# Altium integrated library TI Data Converters Analog to Digital Converter.IntLib: 2197 symbols (part 84 of 168)
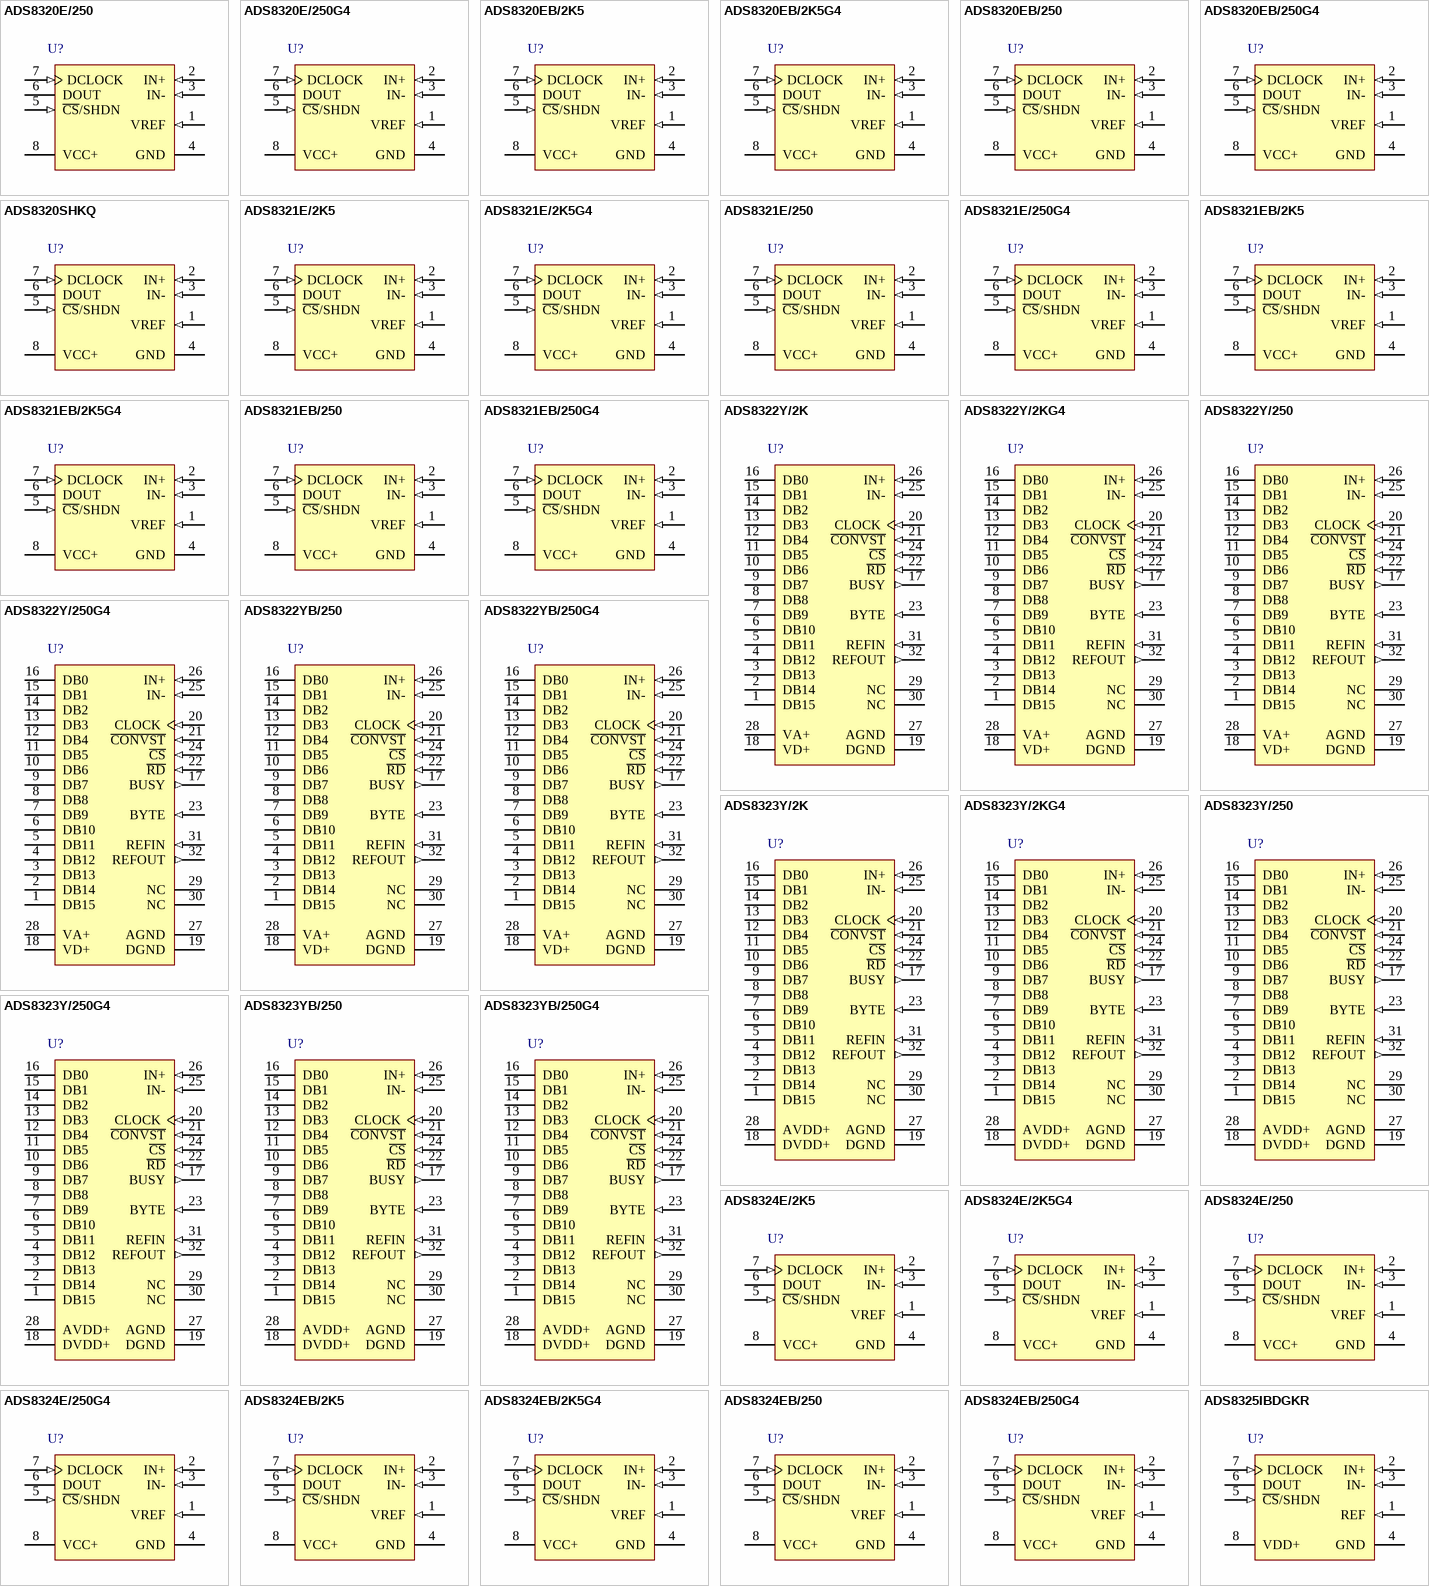
[diagram p209: symbols ADS8320E/250 to ADS8325IBDGKR]

## ADS8321E/2K5
designator U?
16-Bit, High Speed, MicroPower Sampling ADC, -40 to 85 degC, 8-pin SOP (DGK8), Green (RoHS & no Sb/Br); Manufacturer: Texas Instruments; PartNumber: ADS8321E/2K5; # Input Channels: 1; Analog Voltage AV/DD(Max)(V): 5.25; Analog Voltage AV/DD(Min)(V): 4.75; Architecture: SAR; INL(Max)(+/-LSB): 8; Interface: Serial SPI; Resolution(Bits): 16; Sample Rate (max)(SPS): 100k; SFDR(dB): 84; SINAD(dB): 82; SNR(dB): 85; SubFamily: Precision ADC (<=10MSPS); DatasheetVersion: SBAS123B; PackageVersion: 4073329/E, 05/2006; PackageReference: DGK8; PackageDescription: 8-Pin Thin Small Outline, Body 3 x 3 mm, Pitch 0.65 mm; Supplier 1: Digi-Key; Supplier Part Number 1: DDC112YK/250-ND; Supplier 2: Mouser; Supplier Part Number 2: 595-DDC112YK/250; Digital Supply(Max)(V): 5.25; Digital Supply(Min)(V): 4.75; Eco-Plan: Green (RoHS & no Sb/Br); Mounting Technology: Surface Mount; Code_JEDEC: MO-187; ComponentLink1Description: Manufacturer URL; ComponentLink1URL: http://www.ti.com/; ComponentLink2Description: Datasheet; ComponentLink2URL: http://www.ti.com/general/docs/lit/getliterature.tsp?genericPartNumber=ADS8321&fileType=pdf; ComponentLink3Description: Package Specification; ComponentLink3URL: http://www.ti.com/litv/pdf/mpds028d
footprint TI-DGK8_N (SOP, 8-Leads, Body 3x3mm, Pitch 0.65mm, IPC Medium Density)
footprint TI-DGK8_L (SOP, 8-Leads, Body 3x3mm, Pitch 0.65mm, IPC High Density)
footprint TI-DGK8_M (SOP, 8-Leads, Body 3x3mm, Pitch 0.65mm, IPC Low Density)
pins: 1 VREF (in) "Reference Input", 2 IN+ (in) "Non Inverting Input", 3 IN- (in) "Inverting Input", 4 GND (power) "Ground", 5 ~{CS}/SHDN (in) "Chip Select when LOW, Shutdown Mode when HIGH.", 6 DOUT (hiz) "The serial output data word is comprised of 16 bits of data. In operation the data is valid on the falling edge of DCLOCK. The second clock pulse after the falling edge of C\S\ enables the serial output. After one null bit, (See Datasheet)", 7 DCLOCK (in) "Data Clock synchronizes the serial data transfer and determines conversion speed.", 8 VCC+ (power) "Power Supply."

## ADS8321E/2K5G4
designator U?
16-Bit, High Speed, MicroPower Sampling ADC, -40 to 85 degC, 8-pin SOP (DGK8), Green (RoHS & no Sb/Br); Manufacturer: Texas Instruments; PartNumber: ADS8321E/2K5G4; # Input Channels: 1; Analog Voltage AV/DD(Max)(V): 5.25; Analog Voltage AV/DD(Min)(V): 4.75; Architecture: SAR; INL(Max)(+/-LSB): 8; Interface: Serial SPI; Resolution(Bits): 16; Sample Rate (max)(SPS): 100k; SFDR(dB): 84; SINAD(dB): 82; SNR(dB): 85; SubFamily: Precision ADC (<=10MSPS); DatasheetVersion: SBAS123B; PackageVersion: 4073329/E, 05/2006; PackageReference: DGK8; PackageDescription: 8-Pin Thin Small Outline, Body 3 x 3 mm, Pitch 0.65 mm; Supplier 1: Digi-Key; Supplier Part Number 1: DDC112YK/250G4-ND; Supplier 2: Mouser; Supplier Part Number 2: 595-DDC112YK/250G4; Digital Supply(Max)(V): 5.25; Digital Supply(Min)(V): 4.75; Eco-Plan: Green (RoHS & no Sb/Br); Mounting Technology: Surface Mount; Code_JEDEC: MO-187; ComponentLink1Description: Manufacturer URL; ComponentLink1URL: http://www.ti.com/; ComponentLink2Description: Datasheet; ComponentLink2URL: http://www.ti.com/general/docs/lit/getliterature.tsp?genericPartNumber=ADS8321&fileType=pdf; ComponentLink3Description: Package Specification; ComponentLink3URL: http://www.ti.com/litv/pdf/mpds028d
footprint TI-DGK8_N (SOP, 8-Leads, Body 3x3mm, Pitch 0.65mm, IPC Medium Density)
footprint TI-DGK8_L (SOP, 8-Leads, Body 3x3mm, Pitch 0.65mm, IPC High Density)
footprint TI-DGK8_M (SOP, 8-Leads, Body 3x3mm, Pitch 0.65mm, IPC Low Density)
pins: 1 VREF (in) "Reference Input", 2 IN+ (in) "Non Inverting Input", 3 IN- (in) "Inverting Input", 4 GND (power) "Ground", 5 ~{CS}/SHDN (in) "Chip Select when LOW, Shutdown Mode when HIGH.", 6 DOUT (hiz) "The serial output data word is comprised of 16 bits of data. In operation the data is valid on the falling edge of DCLOCK. The second clock pulse after the falling edge of C\S\ enables the serial output. After one null bit, (See Datasheet)", 7 DCLOCK (in) "Data Clock synchronizes the serial data transfer and determines conversion speed.", 8 VCC+ (power) "Power Supply."

## ADS8321E/250
designator U?
16-Bit, High Speed, MicroPower Sampling ADC, -40 to 85 degC, 8-pin SOP (DGK8), Green (RoHS & no Sb/Br); Manufacturer: Texas Instruments; PartNumber: ADS8321E/250; # Input Channels: 1; Analog Voltage AV/DD(Max)(V): 5.25; Analog Voltage AV/DD(Min)(V): 4.75; Architecture: SAR; INL(Max)(+/-LSB): 8; Interface: Serial SPI; Resolution(Bits): 16; Sample Rate (max)(SPS): 100k; SFDR(dB): 84; SINAD(dB): 82; SNR(dB): 85; SubFamily: Precision ADC (<=10MSPS); DatasheetVersion: SBAS123B; PackageVersion: 4073329/E, 05/2006; PackageReference: DGK8; PackageDescription: 8-Pin Thin Small Outline, Body 3 x 3 mm, Pitch 0.65 mm; Supplier 1: Digi-Key; Supplier Part Number 1: ADS7841E-ND; Supplier 2: Farnell; Supplier Part Number 2: 4808228; Supplier 3: Newark; Supplier Part Number 3: 35C1553; Supplier 4: Mouser; Supplier Part Number 4: 595-ADS7841E; Digital Supply(Max)(V): 5.25; Digital Supply(Min)(V): 4.75; Eco-Plan: Green (RoHS & no Sb/Br); Mounting Technology: Surface Mount; Code_JEDEC: MO-187; ComponentLink1Description: Manufacturer URL; ComponentLink1URL: http://www.ti.com/; ComponentLink2Description: Datasheet; ComponentLink2URL: http://www.ti.com/general/docs/lit/getliterature.tsp?genericPartNumber=ADS8321&fileType=pdf; ComponentLink3Description: Package Specification; ComponentLink3URL: http://www.ti.com/litv/pdf/mpds028d
footprint TI-DGK8_N (SOP, 8-Leads, Body 3x3mm, Pitch 0.65mm, IPC Medium Density)
footprint TI-DGK8_L (SOP, 8-Leads, Body 3x3mm, Pitch 0.65mm, IPC High Density)
footprint TI-DGK8_M (SOP, 8-Leads, Body 3x3mm, Pitch 0.65mm, IPC Low Density)
pins: 1 VREF (in) "Reference Input", 2 IN+ (in) "Non Inverting Input", 3 IN- (in) "Inverting Input", 4 GND (power) "Ground", 5 ~{CS}/SHDN (in) "Chip Select when LOW, Shutdown Mode when HIGH.", 6 DOUT (hiz) "The serial output data word is comprised of 16 bits of data. In operation the data is valid on the falling edge of DCLOCK. The second clock pulse after the falling edge of C\S\ enables the serial output. After one null bit, (See Datasheet)", 7 DCLOCK (in) "Data Clock synchronizes the serial data transfer and determines conversion speed.", 8 VCC+ (power) "Power Supply."

## ADS8321E/250G4
designator U?
16-Bit, High Speed, MicroPower Sampling ADC, -40 to 85 degC, 8-pin SOP (DGK8), Green (RoHS & no Sb/Br); Manufacturer: Texas Instruments; PartNumber: ADS8321E/250G4; # Input Channels: 1; Analog Voltage AV/DD(Max)(V): 5.25; Analog Voltage AV/DD(Min)(V): 4.75; Architecture: SAR; INL(Max)(+/-LSB): 8; Interface: Serial SPI; Resolution(Bits): 16; Sample Rate (max)(SPS): 100k; SFDR(dB): 84; SINAD(dB): 82; SNR(dB): 85; SubFamily: Precision ADC (<=10MSPS); DatasheetVersion: SBAS123B; PackageVersion: 4073329/E, 05/2006; PackageReference: DGK8; PackageDescription: 8-Pin Thin Small Outline, Body 3 x 3 mm, Pitch 0.65 mm; Supplier 1: Digi-Key; Supplier Part Number 1: 296-25900-2-ND; Supplier 2: Digi-Key; Supplier Part Number 2: 296-25900-1-ND; Supplier 3: Digi-Key; Supplier Part Number 3: 296-25900-6-ND; Supplier 4: Mouser; Supplier Part Number 4: 595-ADS7841E/2K5; Digital Supply(Max)(V): 5.25; Digital Supply(Min)(V): 4.75; Eco-Plan: Green (RoHS & no Sb/Br); Mounting Technology: Surface Mount; Code_JEDEC: MO-187; ComponentLink1Description: Manufacturer URL; ComponentLink1URL: http://www.ti.com/; ComponentLink2Description: Datasheet; ComponentLink2URL: http://www.ti.com/general/docs/lit/getliterature.tsp?genericPartNumber=ADS8321&fileType=pdf; ComponentLink3Description: Package Specification; ComponentLink3URL: http://www.ti.com/litv/pdf/mpds028d
footprint TI-DGK8_N (SOP, 8-Leads, Body 3x3mm, Pitch 0.65mm, IPC Medium Density)
footprint TI-DGK8_L (SOP, 8-Leads, Body 3x3mm, Pitch 0.65mm, IPC High Density)
footprint TI-DGK8_M (SOP, 8-Leads, Body 3x3mm, Pitch 0.65mm, IPC Low Density)
pins: 1 VREF (in) "Reference Input", 2 IN+ (in) "Non Inverting Input", 3 IN- (in) "Inverting Input", 4 GND (power) "Ground", 5 ~{CS}/SHDN (in) "Chip Select when LOW, Shutdown Mode when HIGH.", 6 DOUT (hiz) "The serial output data word is comprised of 16 bits of data. In operation the data is valid on the falling edge of DCLOCK. The second clock pulse after the falling edge of C\S\ enables the serial output. After one null bit, (See Datasheet)", 7 DCLOCK (in) "Data Clock synchronizes the serial data transfer and determines conversion speed.", 8 VCC+ (power) "Power Supply."

## ADS8321EB/2K5
designator U?
16-Bit, High Speed, MicroPower Sampling ADC, -40 to 85 degC, 8-pin SOP (DGK8), Green (RoHS & no Sb/Br); Manufacturer: Texas Instruments; PartNumber: ADS8321EB/2K5; # Input Channels: 1; Analog Voltage AV/DD(Max)(V): 5.25; Analog Voltage AV/DD(Min)(V): 4.75; Architecture: SAR; INL(Max)(+/-LSB): 8; Interface: Serial SPI; Resolution(Bits): 16; Sample Rate (max)(SPS): 100k; SFDR(dB): 86; SINAD(dB): 84; SNR(dB): 87; SubFamily: Precision ADC (<=10MSPS); DatasheetVersion: SBAS123B; PackageVersion: 4073329/E, 05/2006; PackageReference: DGK8; PackageDescription: 8-Pin Thin Small Outline, Body 3 x 3 mm, Pitch 0.65 mm; Supplier 1: Digi-Key; Supplier Part Number 1: ADS7841E/2K5G4-ND; Supplier 2: Mouser; Supplier Part Number 2: 595-ADS7841E/2K5G4; Digital Supply(Max)(V): 5.25; Digital Supply(Min)(V): 4.75; Eco-Plan: Green (RoHS & no Sb/Br); Mounting Technology: Surface Mount; Code_JEDEC: MO-187; ComponentLink1Description: Manufacturer URL; ComponentLink1URL: http://www.ti.com/; ComponentLink2Description: Datasheet; ComponentLink2URL: http://www.ti.com/general/docs/lit/getliterature.tsp?genericPartNumber=ADS8321&fileType=pdf; ComponentLink3Description: Package Specification; ComponentLink3URL: http://www.ti.com/litv/pdf/mpds028d
footprint TI-DGK8_N (SOP, 8-Leads, Body 3x3mm, Pitch 0.65mm, IPC Medium Density)
footprint TI-DGK8_L (SOP, 8-Leads, Body 3x3mm, Pitch 0.65mm, IPC High Density)
footprint TI-DGK8_M (SOP, 8-Leads, Body 3x3mm, Pitch 0.65mm, IPC Low Density)
pins: 1 VREF (in) "Reference Input", 2 IN+ (in) "Non Inverting Input", 3 IN- (in) "Inverting Input", 4 GND (power) "Ground", 5 ~{CS}/SHDN (in) "Chip Select when LOW, Shutdown Mode when HIGH.", 6 DOUT (hiz) "The serial output data word is comprised of 16 bits of data. In operation the data is valid on the falling edge of DCLOCK. The second clock pulse after the falling edge of C\S\ enables the serial output. After one null bit, (See Datasheet)", 7 DCLOCK (in) "Data Clock synchronizes the serial data transfer and determines conversion speed.", 8 VCC+ (power) "Power Supply."

## ADS8321EB/2K5G4
designator U?
16-Bit, High Speed, MicroPower Sampling ADC, -40 to 85 degC, 8-pin SOP (DGK8), Green (RoHS & no Sb/Br); Manufacturer: Texas Instruments; PartNumber: ADS8321EB/2K5G4; # Input Channels: 1; Analog Voltage AV/DD(Max)(V): 5.25; Analog Voltage AV/DD(Min)(V): 4.75; Architecture: SAR; INL(Max)(+/-LSB): 8; Interface: Serial SPI; Resolution(Bits): 16; Sample Rate (max)(SPS): 100k; SFDR(dB): 86; SINAD(dB): 84; SNR(dB): 87; SubFamily: Precision ADC (<=10MSPS); DatasheetVersion: SBAS123B; PackageVersion: 4073329/E, 05/2006; PackageReference: DGK8; PackageDescription: 8-Pin Thin Small Outline, Body 3 x 3 mm, Pitch 0.65 mm; Supplier 1: Digi-Key; Supplier Part Number 1: ADS7841EB-ND; Supplier 2: Newark; Supplier Part Number 2: 35C1554; Supplier 3: Mouser; Supplier Part Number 3: 595-ADS7841EB; Digital Supply(Max)(V): 5.25; Digital Supply(Min)(V): 4.75; Eco-Plan: Green (RoHS & no Sb/Br); Mounting Technology: Surface Mount; Code_JEDEC: MO-187; ComponentLink1Description: Manufacturer URL; ComponentLink1URL: http://www.ti.com/; ComponentLink2Description: Datasheet; ComponentLink2URL: http://www.ti.com/general/docs/lit/getliterature.tsp?genericPartNumber=ADS8321&fileType=pdf; ComponentLink3Description: Package Specification; ComponentLink3URL: http://www.ti.com/litv/pdf/mpds028d
footprint TI-DGK8_N (SOP, 8-Leads, Body 3x3mm, Pitch 0.65mm, IPC Medium Density)
footprint TI-DGK8_L (SOP, 8-Leads, Body 3x3mm, Pitch 0.65mm, IPC High Density)
footprint TI-DGK8_M (SOP, 8-Leads, Body 3x3mm, Pitch 0.65mm, IPC Low Density)
pins: 1 VREF (in) "Reference Input", 2 IN+ (in) "Non Inverting Input", 3 IN- (in) "Inverting Input", 4 GND (power) "Ground", 5 ~{CS}/SHDN (in) "Chip Select when LOW, Shutdown Mode when HIGH.", 6 DOUT (hiz) "The serial output data word is comprised of 16 bits of data. In operation the data is valid on the falling edge of DCLOCK. The second clock pulse after the falling edge of C\S\ enables the serial output. After one null bit, (See Datasheet)", 7 DCLOCK (in) "Data Clock synchronizes the serial data transfer and determines conversion speed.", 8 VCC+ (power) "Power Supply."

## ADS8321EB/250
designator U?
16-Bit, High Speed, MicroPower Sampling ADC, -40 to 85 degC, 8-pin SOP (DGK8), Green (RoHS & no Sb/Br); Manufacturer: Texas Instruments; PartNumber: ADS8321EB/250; # Input Channels: 1; Analog Voltage AV/DD(Max)(V): 5.25; Analog Voltage AV/DD(Min)(V): 4.75; Architecture: SAR; INL(Max)(+/-LSB): 8; Interface: Serial SPI; Resolution(Bits): 16; Sample Rate (max)(SPS): 100k; SFDR(dB): 86; SINAD(dB): 84; SNR(dB): 87; SubFamily: Precision ADC (<=10MSPS); DatasheetVersion: SBAS123B; PackageVersion: 4073329/E, 05/2006; PackageReference: DGK8; PackageDescription: 8-Pin Thin Small Outline, Body 3 x 3 mm, Pitch 0.65 mm; Supplier 1: Digi-Key; Supplier Part Number 1: ADS7841EB/2K5-ND; Supplier 2: Newark; Supplier Part Number 2: 74C7169; Supplier 3: Mouser; Supplier Part Number 3: 595-ADS7841EB/2K5; Digital Supply(Max)(V): 5.25; Digital Supply(Min)(V): 4.75; Eco-Plan: Green (RoHS & no Sb/Br); Mounting Technology: Surface Mount; Code_JEDEC: MO-187; ComponentLink1Description: Manufacturer URL; ComponentLink1URL: http://www.ti.com/; ComponentLink2Description: Datasheet; ComponentLink2URL: http://www.ti.com/general/docs/lit/getliterature.tsp?genericPartNumber=ADS8321&fileType=pdf; ComponentLink3Description: Package Specification; ComponentLink3URL: http://www.ti.com/litv/pdf/mpds028d
footprint TI-DGK8_N (SOP, 8-Leads, Body 3x3mm, Pitch 0.65mm, IPC Medium Density)
footprint TI-DGK8_L (SOP, 8-Leads, Body 3x3mm, Pitch 0.65mm, IPC High Density)
footprint TI-DGK8_M (SOP, 8-Leads, Body 3x3mm, Pitch 0.65mm, IPC Low Density)
pins: 1 VREF (in) "Reference Input", 2 IN+ (in) "Non Inverting Input", 3 IN- (in) "Inverting Input", 4 GND (power) "Ground", 5 ~{CS}/SHDN (in) "Chip Select when LOW, Shutdown Mode when HIGH.", 6 DOUT (hiz) "The serial output data word is comprised of 16 bits of data. In operation the data is valid on the falling edge of DCLOCK. The second clock pulse after the falling edge of C\S\ enables the serial output. After one null bit, (See Datasheet)", 7 DCLOCK (in) "Data Clock synchronizes the serial data transfer and determines conversion speed.", 8 VCC+ (power) "Power Supply."

## ADS8321EB/250G4
designator U?
16-Bit, High Speed, MicroPower Sampling ADC, -40 to 85 degC, 8-pin SOP (DGK8), Green (RoHS & no Sb/Br); Manufacturer: Texas Instruments; PartNumber: ADS8321EB/250G4; # Input Channels: 1; Analog Voltage AV/DD(Max)(V): 5.25; Analog Voltage AV/DD(Min)(V): 4.75; Architecture: SAR; INL(Max)(+/-LSB): 8; Interface: Serial SPI; Resolution(Bits): 16; Sample Rate (max)(SPS): 100k; SFDR(dB): 86; SINAD(dB): 84; SNR(dB): 87; SubFamily: Precision ADC (<=10MSPS); DatasheetVersion: SBAS123B; PackageVersion: 4073329/E, 05/2006; PackageReference: DGK8; PackageDescription: 8-Pin Thin Small Outline, Body 3 x 3 mm, Pitch 0.65 mm; Supplier 1: Digi-Key; Supplier Part Number 1: ADS7841EB/2K5G4-ND; Supplier 2: Mouser; Supplier Part Number 2: 595-ADS7841EB/2K5G4; Digital Supply(Max)(V): 5.25; Digital Supply(Min)(V): 4.75; Eco-Plan: Green (RoHS & no Sb/Br); Mounting Technology: Surface Mount; Code_JEDEC: MO-187; ComponentLink1Description: Manufacturer URL; ComponentLink1URL: http://www.ti.com/; ComponentLink2Description: Datasheet; ComponentLink2URL: http://www.ti.com/general/docs/lit/getliterature.tsp?genericPartNumber=ADS8321&fileType=pdf; ComponentLink3Description: Package Specification; ComponentLink3URL: http://www.ti.com/litv/pdf/mpds028d
footprint TI-DGK8_N (SOP, 8-Leads, Body 3x3mm, Pitch 0.65mm, IPC Medium Density)
footprint TI-DGK8_L (SOP, 8-Leads, Body 3x3mm, Pitch 0.65mm, IPC High Density)
footprint TI-DGK8_M (SOP, 8-Leads, Body 3x3mm, Pitch 0.65mm, IPC Low Density)
pins: 1 VREF (in) "Reference Input", 2 IN+ (in) "Non Inverting Input", 3 IN- (in) "Inverting Input", 4 GND (power) "Ground", 5 ~{CS}/SHDN (in) "Chip Select when LOW, Shutdown Mode when HIGH.", 6 DOUT (hiz) "The serial output data word is comprised of 16 bits of data. In operation the data is valid on the falling edge of DCLOCK. The second clock pulse after the falling edge of C\S\ enables the serial output. After one null bit, (See Datasheet)", 7 DCLOCK (in) "Data Clock synchronizes the serial data transfer and determines conversion speed.", 8 VCC+ (power) "Power Supply."

## ADS8322Y/2K
designator U?
Unipolar, 16-Bit, 500 kSPS CMOS ADC, -40 to 85 degC, 32-pin QFP (PBS32), Green (RoHS & no Sb/Br); Manufacturer: Texas Instruments; PartNumber: ADS8322Y/2K; # Input Channels: 1; Analog Voltage AV/DD(Max)(V): 5.25; Analog Voltage AV/DD(Min)(V): 4.75; Architecture: SAR; INL(Max)(+/-LSB): 8; Interface: Parallel CMOS; Resolution(Bits): 16; Sample Rate (max)(SPS): 500k; SFDR(dB): 94; SINAD(dB): 81; SubFamily: Precision ADC (<=10MSPS); DatasheetVersion: SBAS215A; PackageVersion: 4087735/B, 07/2005; PackageReference: PBS32; PackageDescription: 32-Pin Plastic Flat Pack, Body 5 X 5 mm, Pitch 0.5 mm; Supplier 1: Digi-Key; Supplier Part Number 1: ADS7841EBG4-ND; Supplier 2: Mouser; Supplier Part Number 2: 595-ADS7841EBG4; Digital Supply(Max)(V): 5.25; Digital Supply(Min)(V): 4.75; Eco-Plan: Green (RoHS & no Sb/Br); Mounting Technology: Surface Mount; Code_JEDEC: MS-026; ComponentLink1Description: Manufacturer URL; ComponentLink1URL: http://www.ti.com/; ComponentLink2Description: Datasheet; ComponentLink2URL: http://www.ti.com/general/docs/lit/getliterature.tsp?genericPartNumber=ADS8322&fileType=pdf; ComponentLink3Description: Package Specification; ComponentLink3URL: http://www.ti.com/lit/ml/mpqf027a/mpqf027a.pdf
footprint TI-PBS32_N (QFP, 32-Leads, Body 5x5mm, Pitch 0.5mm, IPC Medium Density)
footprint TI-PBS32_L (QFP, 32-Leads, Body 5x5mm, Pitch 0.5mm, IPC High Density)
footprint TI-PBS32_M (QFP, 32-Leads, Body 5x5mm, Pitch 0.5mm, IPC Low Density)
pins: 1 DB15 (hiz) "Data Bit 15 (MSB)", 2 DB14 (hiz) "Data Bit 14", 3 DB13 (hiz) "Data Bit 13", 4 DB12 (hiz) "Data Bit 12", 5 DB11 (hiz) "Data Bit 11", 6 DB10 (hiz) "Data Bit 10", 7 DB9 (hiz) "Data Bit 9", 8 DB8 (hiz) "Data Bit 8", 9 DB7 (hiz) "Data Bit 7", 10 DB6 (hiz) "Data Bit 6", 11 DB5 (hiz) "Data Bit 5", 12 DB4 (hiz) "Data Bit 4", 13 DB3 (hiz) "Data Bit 3", 14 DB2 (hiz) "Data Bit 2", 15 DB1 (hiz) "Data Bit 1", 16 DB0 (hiz) "Data Bit 0 (LSB)", 17 BUSY (out) "High when a conversion is in progress.", 18 VD+ (power) "Digital Power Supply, +5VDC.", 19 DGND (power) "Digital Ground", 20 CLOCK (in) "An external CMOS-compatible clock can be applied to the CLOCK input to synchronize the conversion process to an external source.", 21 ~{CONVST} (in) "Convert Start", 22 ~{RD} (in) "Synchronization pulse for the parallel output.", 23 BYTE (in) "Selects eight most significant bits (low) or eight least significant bits (high). Data valid on pins 9-16.", 24 ~{CS} (in) "Chip Select", 25 IN- (in) "Inverting Input Channel", 26 IN+ (in) "Noninverting Input Channel", 27 AGND (power) "Analog Ground", 28 VA+ (power) "Analog Power Supply, +5VDC.", 29 NC "No connection", 30 NC "No connection", 31 REFIN (in) "Reference Input. When using the internal 2.5V reference, tie this pin directly to REFOUT.", 32 REFOUT (out) "Reference Output. A 0.1uF capacitor should be connected to this pin when the internal reference is used."

## ADS8322Y/2KG4
designator U?
Unipolar, 16-Bit, 500 kSPS CMOS ADC, -40 to 85 degC, 32-pin QFP (PBS32), Green (RoHS & no Sb/Br); Manufacturer: Texas Instruments; PartNumber: ADS8322Y/2KG4; # Input Channels: 1; Analog Voltage AV/DD(Max)(V): 5.25; Analog Voltage AV/DD(Min)(V): 4.75; Architecture: SAR; INL(Max)(+/-LSB): 8; Interface: Parallel CMOS; Resolution(Bits): 16; Sample Rate (max)(SPS): 500k; SFDR(dB): 94; SINAD(dB): 81; SubFamily: Precision ADC (<=10MSPS); DatasheetVersion: SBAS215A; PackageVersion: 4087735/B, 07/2005; PackageReference: PBS32; PackageDescription: 32-Pin Plastic Flat Pack, Body 5 X 5 mm, Pitch 0.5 mm; Supplier 1: Digi-Key; Supplier Part Number 1: ADS7841EG4-ND; Supplier 2: Farnell; Supplier Part Number 2: 9324127; Supplier 3: Newark; Supplier Part Number 3: 37K8975; Supplier 4: Newark; Supplier Part Number 4: 24K4044; Supplier 5: Mouser; Supplier Part Number 5: 595-ADS7841EG4; Digital Supply(Max)(V): 5.25; Digital Supply(Min)(V): 4.75; Eco-Plan: Green (RoHS & no Sb/Br); Mounting Technology: Surface Mount; Code_JEDEC: MS-026; ComponentLink1Description: Manufacturer URL; ComponentLink1URL: http://www.ti.com/; ComponentLink2Description: Datasheet; ComponentLink2URL: http://www.ti.com/general/docs/lit/getliterature.tsp?genericPartNumber=ADS8322&fileType=pdf; ComponentLink3Description: Package Specification; ComponentLink3URL: http://www.ti.com/lit/ml/mpqf027a/mpqf027a.pdf
footprint TI-PBS32_N (QFP, 32-Leads, Body 5x5mm, Pitch 0.5mm, IPC Medium Density)
footprint TI-PBS32_L (QFP, 32-Leads, Body 5x5mm, Pitch 0.5mm, IPC High Density)
footprint TI-PBS32_M (QFP, 32-Leads, Body 5x5mm, Pitch 0.5mm, IPC Low Density)
pins: 1 DB15 (hiz) "Data Bit 15 (MSB)", 2 DB14 (hiz) "Data Bit 14", 3 DB13 (hiz) "Data Bit 13", 4 DB12 (hiz) "Data Bit 12", 5 DB11 (hiz) "Data Bit 11", 6 DB10 (hiz) "Data Bit 10", 7 DB9 (hiz) "Data Bit 9", 8 DB8 (hiz) "Data Bit 8", 9 DB7 (hiz) "Data Bit 7", 10 DB6 (hiz) "Data Bit 6", 11 DB5 (hiz) "Data Bit 5", 12 DB4 (hiz) "Data Bit 4", 13 DB3 (hiz) "Data Bit 3", 14 DB2 (hiz) "Data Bit 2", 15 DB1 (hiz) "Data Bit 1", 16 DB0 (hiz) "Data Bit 0 (LSB)", 17 BUSY (out) "High when a conversion is in progress.", 18 VD+ (power) "Digital Power Supply, +5VDC.", 19 DGND (power) "Digital Ground", 20 CLOCK (in) "An external CMOS-compatible clock can be applied to the CLOCK input to synchronize the conversion process to an external source.", 21 ~{CONVST} (in) "Convert Start", 22 ~{RD} (in) "Synchronization pulse for the parallel output.", 23 BYTE (in) "Selects eight most significant bits (low) or eight least significant bits (high). Data valid on pins 9-16.", 24 ~{CS} (in) "Chip Select", 25 IN- (in) "Inverting Input Channel", 26 IN+ (in) "Noninverting Input Channel", 27 AGND (power) "Analog Ground", 28 VA+ (power) "Analog Power Supply, +5VDC.", 29 NC "No connection", 30 NC "No connection", 31 REFIN (in) "Reference Input. When using the internal 2.5V reference, tie this pin directly to REFOUT.", 32 REFOUT (out) "Reference Output. A 0.1uF capacitor should be connected to this pin when the internal reference is used."

## ADS8322Y/250
designator U?
Unipolar, 16-Bit, 500 kSPS CMOS ADC, -40 to 85 degC, 32-pin QFP (PBS32), Green (RoHS & no Sb/Br); Manufacturer: Texas Instruments; PartNumber: ADS8322Y/250; # Input Channels: 1; Analog Voltage AV/DD(Max)(V): 5.25; Analog Voltage AV/DD(Min)(V): 4.75; Architecture: SAR; INL(Max)(+/-LSB): 8; Interface: Parallel CMOS; Resolution(Bits): 16; Sample Rate (max)(SPS): 500k; SFDR(dB): 94; SINAD(dB): 81; SubFamily: Precision ADC (<=10MSPS); DatasheetVersion: SBAS215A; PackageVersion: 4087735/B, 07/2005; PackageReference: PBS32; PackageDescription: 32-Pin Plastic Flat Pack, Body 5 X 5 mm, Pitch 0.5 mm; Supplier 1: Digi-Key; Supplier Part Number 1: 296-32824-5-ND; Supplier 2: Newark; Supplier Part Number 2: 74C7170; Supplier 3: Mouser; Supplier Part Number 3: 595-ADS7841ES; Digital Supply(Max)(V): 5.25; Digital Supply(Min)(V): 4.75; Eco-Plan: Green (RoHS & no Sb/Br); Mounting Technology: Surface Mount; Code_JEDEC: MS-026; ComponentLink1Description: Manufacturer URL; ComponentLink1URL: http://www.ti.com/; ComponentLink2Description: Datasheet; ComponentLink2URL: http://www.ti.com/general/docs/lit/getliterature.tsp?genericPartNumber=ADS8322&fileType=pdf; ComponentLink3Description: Package Specification; ComponentLink3URL: http://www.ti.com/lit/ml/mpqf027a/mpqf027a.pdf
footprint TI-PBS32_N (QFP, 32-Leads, Body 5x5mm, Pitch 0.5mm, IPC Medium Density)
footprint TI-PBS32_L (QFP, 32-Leads, Body 5x5mm, Pitch 0.5mm, IPC High Density)
footprint TI-PBS32_M (QFP, 32-Leads, Body 5x5mm, Pitch 0.5mm, IPC Low Density)
pins: 1 DB15 (hiz) "Data Bit 15 (MSB)", 2 DB14 (hiz) "Data Bit 14", 3 DB13 (hiz) "Data Bit 13", 4 DB12 (hiz) "Data Bit 12", 5 DB11 (hiz) "Data Bit 11", 6 DB10 (hiz) "Data Bit 10", 7 DB9 (hiz) "Data Bit 9", 8 DB8 (hiz) "Data Bit 8", 9 DB7 (hiz) "Data Bit 7", 10 DB6 (hiz) "Data Bit 6", 11 DB5 (hiz) "Data Bit 5", 12 DB4 (hiz) "Data Bit 4", 13 DB3 (hiz) "Data Bit 3", 14 DB2 (hiz) "Data Bit 2", 15 DB1 (hiz) "Data Bit 1", 16 DB0 (hiz) "Data Bit 0 (LSB)", 17 BUSY (out) "High when a conversion is in progress.", 18 VD+ (power) "Digital Power Supply, +5VDC.", 19 DGND (power) "Digital Ground", 20 CLOCK (in) "An external CMOS-compatible clock can be applied to the CLOCK input to synchronize the conversion process to an external source.", 21 ~{CONVST} (in) "Convert Start", 22 ~{RD} (in) "Synchronization pulse for the parallel output.", 23 BYTE (in) "Selects eight most significant bits (low) or eight least significant bits (high). Data valid on pins 9-16.", 24 ~{CS} (in) "Chip Select", 25 IN- (in) "Inverting Input Channel", 26 IN+ (in) "Noninverting Input Channel", 27 AGND (power) "Analog Ground", 28 VA+ (power) "Analog Power Supply, +5VDC.", 29 NC "No connection", 30 NC "No connection", 31 REFIN (in) "Reference Input. When using the internal 2.5V reference, tie this pin directly to REFOUT.", 32 REFOUT (out) "Reference Output. A 0.1uF capacitor should be connected to this pin when the internal reference is used."

## ADS8322Y/250G4
designator U?
Unipolar, 16-Bit, 500 kSPS CMOS ADC, -40 to 85 degC, 32-pin QFP (PBS32), Green (RoHS & no Sb/Br); Manufacturer: Texas Instruments; PartNumber: ADS8322Y/250G4; # Input Channels: 1; Analog Voltage AV/DD(Max)(V): 5.25; Analog Voltage AV/DD(Min)(V): 4.75; Architecture: SAR; INL(Max)(+/-LSB): 8; Interface: Parallel CMOS; Resolution(Bits): 16; Sample Rate (max)(SPS): 500k; SFDR(dB): 94; SINAD(dB): 81; SubFamily: Precision ADC (<=10MSPS); DatasheetVersion: SBAS215A; PackageVersion: 4087735/B, 07/2005; PackageReference: PBS32; PackageDescription: 32-Pin Plastic Flat Pack, Body 5 X 5 mm, Pitch 0.5 mm; Supplier 1: Digi-Key; Supplier Part Number 1: ADS7841ESG4-ND; Supplier 2: Mouser; Supplier Part Number 2: 595-ADS7841ESG4; Digital Supply(Max)(V): 5.25; Digital Supply(Min)(V): 4.75; Eco-Plan: Green (RoHS & no Sb/Br); Mounting Technology: Surface Mount; Code_JEDEC: MS-026; ComponentLink1Description: Manufacturer URL; ComponentLink1URL: http://www.ti.com/; ComponentLink2Description: Datasheet; ComponentLink2URL: http://www.ti.com/general/docs/lit/getliterature.tsp?genericPartNumber=ADS8322&fileType=pdf; ComponentLink3Description: Package Specification; ComponentLink3URL: http://www.ti.com/lit/ml/mpqf027a/mpqf027a.pdf
footprint TI-PBS32_N (QFP, 32-Leads, Body 5x5mm, Pitch 0.5mm, IPC Medium Density)
footprint TI-PBS32_L (QFP, 32-Leads, Body 5x5mm, Pitch 0.5mm, IPC High Density)
footprint TI-PBS32_M (QFP, 32-Leads, Body 5x5mm, Pitch 0.5mm, IPC Low Density)
pins: 1 DB15 (hiz) "Data Bit 15 (MSB)", 2 DB14 (hiz) "Data Bit 14", 3 DB13 (hiz) "Data Bit 13", 4 DB12 (hiz) "Data Bit 12", 5 DB11 (hiz) "Data Bit 11", 6 DB10 (hiz) "Data Bit 10", 7 DB9 (hiz) "Data Bit 9", 8 DB8 (hiz) "Data Bit 8", 9 DB7 (hiz) "Data Bit 7", 10 DB6 (hiz) "Data Bit 6", 11 DB5 (hiz) "Data Bit 5", 12 DB4 (hiz) "Data Bit 4", 13 DB3 (hiz) "Data Bit 3", 14 DB2 (hiz) "Data Bit 2", 15 DB1 (hiz) "Data Bit 1", 16 DB0 (hiz) "Data Bit 0 (LSB)", 17 BUSY (out) "High when a conversion is in progress.", 18 VD+ (power) "Digital Power Supply, +5VDC.", 19 DGND (power) "Digital Ground", 20 CLOCK (in) "An external CMOS-compatible clock can be applied to the CLOCK input to synchronize the conversion process to an external source.", 21 ~{CONVST} (in) "Convert Start", 22 ~{RD} (in) "Synchronization pulse for the parallel output.", 23 BYTE (in) "Selects eight most significant bits (low) or eight least significant bits (high). Data valid on pins 9-16.", 24 ~{CS} (in) "Chip Select", 25 IN- (in) "Inverting Input Channel", 26 IN+ (in) "Noninverting Input Channel", 27 AGND (power) "Analog Ground", 28 VA+ (power) "Analog Power Supply, +5VDC.", 29 NC "No connection", 30 NC "No connection", 31 REFIN (in) "Reference Input. When using the internal 2.5V reference, tie this pin directly to REFOUT.", 32 REFOUT (out) "Reference Output. A 0.1uF capacitor should be connected to this pin when the internal reference is used."

## ADS8322YB/250
designator U?
Unipolar, 16-Bit, 500 kSPS CMOS ADC, -40 to 85 degC, 32-pin QFP (PBS32), Green (RoHS & no Sb/Br); Manufacturer: Texas Instruments; PartNumber: ADS8322YB/250; # Input Channels: 1; Analog Voltage AV/DD(Max)(V): 5.25; Analog Voltage AV/DD(Min)(V): 4.75; Architecture: SAR; INL(Max)(+/-LSB): 6; Interface: Parallel CMOS; Resolution(Bits): 16; Sample Rate (max)(SPS): 500k; SFDR(dB): 96; SINAD(dB): 83; SubFamily: Precision ADC (<=10MSPS); DatasheetVersion: SBAS215A; PackageVersion: 4087735/B, 07/2005; PackageReference: PBS32; PackageDescription: 32-Pin Plastic Flat Pack, Body 5 X 5 mm, Pitch 0.5 mm; Supplier 1: Digi-Key; Supplier Part Number 1: ADS7841P-ND; Supplier 2: Newark; Supplier Part Number 2: 14M9333; Supplier 3: Mouser; Supplier Part Number 3: 595-ADS7841P; Digital Supply(Max)(V): 5.25; Digital Supply(Min)(V): 4.75; Eco-Plan: Green (RoHS & no Sb/Br); Mounting Technology: Surface Mount; Code_JEDEC: MS-026; ComponentLink1Description: Manufacturer URL; ComponentLink1URL: http://www.ti.com/; ComponentLink2Description: Datasheet; ComponentLink2URL: http://www.ti.com/general/docs/lit/getliterature.tsp?genericPartNumber=ADS8322&fileType=pdf; ComponentLink3Description: Package Specification; ComponentLink3URL: http://www.ti.com/lit/ml/mpqf027a/mpqf027a.pdf
footprint TI-PBS32_N (QFP, 32-Leads, Body 5x5mm, Pitch 0.5mm, IPC Medium Density)
footprint TI-PBS32_L (QFP, 32-Leads, Body 5x5mm, Pitch 0.5mm, IPC High Density)
footprint TI-PBS32_M (QFP, 32-Leads, Body 5x5mm, Pitch 0.5mm, IPC Low Density)
pins: 1 DB15 (hiz) "Data Bit 15 (MSB)", 2 DB14 (hiz) "Data Bit 14", 3 DB13 (hiz) "Data Bit 13", 4 DB12 (hiz) "Data Bit 12", 5 DB11 (hiz) "Data Bit 11", 6 DB10 (hiz) "Data Bit 10", 7 DB9 (hiz) "Data Bit 9", 8 DB8 (hiz) "Data Bit 8", 9 DB7 (hiz) "Data Bit 7", 10 DB6 (hiz) "Data Bit 6", 11 DB5 (hiz) "Data Bit 5", 12 DB4 (hiz) "Data Bit 4", 13 DB3 (hiz) "Data Bit 3", 14 DB2 (hiz) "Data Bit 2", 15 DB1 (hiz) "Data Bit 1", 16 DB0 (hiz) "Data Bit 0 (LSB)", 17 BUSY (out) "High when a conversion is in progress.", 18 VD+ (power) "Digital Power Supply, +5VDC.", 19 DGND (power) "Digital Ground", 20 CLOCK (in) "An external CMOS-compatible clock can be applied to the CLOCK input to synchronize the conversion process to an external source.", 21 ~{CONVST} (in) "Convert Start", 22 ~{RD} (in) "Synchronization pulse for the parallel output.", 23 BYTE (in) "Selects eight most significant bits (low) or eight least significant bits (high). Data valid on pins 9-16.", 24 ~{CS} (in) "Chip Select", 25 IN- (in) "Inverting Input Channel", 26 IN+ (in) "Noninverting Input Channel", 27 AGND (power) "Analog Ground", 28 VA+ (power) "Analog Power Supply, +5VDC.", 29 NC "No connection", 30 NC "No connection", 31 REFIN (in) "Reference Input. When using the internal 2.5V reference, tie this pin directly to REFOUT.", 32 REFOUT (out) "Reference Output. A 0.1uF capacitor should be connected to this pin when the internal reference is used."

## ADS8322YB/250G4
designator U?
Unipolar, 16-Bit, 500 kSPS CMOS ADC, -40 to 85 degC, 32-pin QFP (PBS32), Green (RoHS & no Sb/Br); Manufacturer: Texas Instruments; PartNumber: ADS8322YB/250G4; # Input Channels: 1; Analog Voltage AV/DD(Max)(V): 5.25; Analog Voltage AV/DD(Min)(V): 4.75; Architecture: SAR; INL(Max)(+/-LSB): 6; Interface: Parallel CMOS; Resolution(Bits): 16; Sample Rate (max)(SPS): 500k; SFDR(dB): 96; SINAD(dB): 83; SubFamily: Precision ADC (<=10MSPS); DatasheetVersion: SBAS215A; PackageVersion: 4087735/B, 07/2005; PackageReference: PBS32; PackageDescription: 32-Pin Plastic Flat Pack, Body 5 X 5 mm, Pitch 0.5 mm; Supplier 1: Digi-Key; Supplier Part Number 1: ADS7841PB-ND; Supplier 2: Newark; Supplier Part Number 2: 39P8419; Supplier 3: Mouser; Supplier Part Number 3: 595-ADS7841PB; Digital Supply(Max)(V): 5.25; Digital Supply(Min)(V): 4.75; Eco-Plan: Green (RoHS & no Sb/Br); Mounting Technology: Surface Mount; Code_JEDEC: MS-026; ComponentLink1Description: Manufacturer URL; ComponentLink1URL: http://www.ti.com/; ComponentLink2Description: Datasheet; ComponentLink2URL: http://www.ti.com/general/docs/lit/getliterature.tsp?genericPartNumber=ADS8322&fileType=pdf; ComponentLink3Description: Package Specification; ComponentLink3URL: http://www.ti.com/lit/ml/mpqf027a/mpqf027a.pdf
footprint TI-PBS32_N (QFP, 32-Leads, Body 5x5mm, Pitch 0.5mm, IPC Medium Density)
footprint TI-PBS32_L (QFP, 32-Leads, Body 5x5mm, Pitch 0.5mm, IPC High Density)
footprint TI-PBS32_M (QFP, 32-Leads, Body 5x5mm, Pitch 0.5mm, IPC Low Density)
pins: 1 DB15 (hiz) "Data Bit 15 (MSB)", 2 DB14 (hiz) "Data Bit 14", 3 DB13 (hiz) "Data Bit 13", 4 DB12 (hiz) "Data Bit 12", 5 DB11 (hiz) "Data Bit 11", 6 DB10 (hiz) "Data Bit 10", 7 DB9 (hiz) "Data Bit 9", 8 DB8 (hiz) "Data Bit 8", 9 DB7 (hiz) "Data Bit 7", 10 DB6 (hiz) "Data Bit 6", 11 DB5 (hiz) "Data Bit 5", 12 DB4 (hiz) "Data Bit 4", 13 DB3 (hiz) "Data Bit 3", 14 DB2 (hiz) "Data Bit 2", 15 DB1 (hiz) "Data Bit 1", 16 DB0 (hiz) "Data Bit 0 (LSB)", 17 BUSY (out) "High when a conversion is in progress.", 18 VD+ (power) "Digital Power Supply, +5VDC.", 19 DGND (power) "Digital Ground", 20 CLOCK (in) "An external CMOS-compatible clock can be applied to the CLOCK input to synchronize the conversion process to an external source.", 21 ~{CONVST} (in) "Convert Start", 22 ~{RD} (in) "Synchronization pulse for the parallel output.", 23 BYTE (in) "Selects eight most significant bits (low) or eight least significant bits (high). Data valid on pins 9-16.", 24 ~{CS} (in) "Chip Select", 25 IN- (in) "Inverting Input Channel", 26 IN+ (in) "Noninverting Input Channel", 27 AGND (power) "Analog Ground", 28 VA+ (power) "Analog Power Supply, +5VDC.", 29 NC "No connection", 30 NC "No connection", 31 REFIN (in) "Reference Input. When using the internal 2.5V reference, tie this pin directly to REFOUT.", 32 REFOUT (out) "Reference Output. A 0.1uF capacitor should be connected to this pin when the internal reference is used."

## ADS8323Y/2K
designator U?
Pseudo Bipolar, 16-Bit, 500 kSPS CMOS ADC, -40 to 85 degC, 32-pin QFP (PBS32), Green (RoHS & no Sb/Br); Manufacturer: Texas Instruments; PartNumber: ADS8323Y/2K; # Input Channels: 1; Analog Voltage AV/DD(Max)(V): 5.25; Analog Voltage AV/DD(Min)(V): 4.75; Architecture: SAR; INL(Max)(+/-LSB): 8; Interface: Parallel CMOS; Resolution(Bits): 16; Sample Rate (max)(SPS): 500k; SFDR(dB): 94; SINAD(dB): 81; SubFamily: Precision ADC (<=10MSPS); DatasheetVersion: SBAS224C; PackageVersion: 4087735/B, 07/2005; PackageReference: PBS32; PackageDescription: 32-Pin Plastic Flat Pack, Body 5 X 5 mm, Pitch 0.5 mm; Supplier 1: Digi-Key; Supplier Part Number 1: ADS7841PBG4-ND; Supplier 2: Newark; Supplier Part Number 2: 33M8689; Supplier 3: Mouser; Supplier Part Number 3: 595-ADS7841PBG4; Digital Supply(Max)(V): 5.25; Digital Supply(Min)(V): 4.75; Eco-Plan: Green (RoHS & no Sb/Br); Mounting Technology: Surface Mount; Code_JEDEC: MS-026; ComponentLink1Description: Manufacturer URL; ComponentLink1URL: http://www.ti.com/; ComponentLink2Description: Datasheet; ComponentLink2URL: http://www.ti.com/general/docs/lit/getliterature.tsp?genericPartNumber=ADS8323&fileType=pdf; ComponentLink3Description: Package Specification; ComponentLink3URL: http://www.ti.com/lit/ml/mpqf027a/mpqf027a.pdf
footprint TI-PBS32_N (QFP, 32-Leads, Body 5x5mm, Pitch 0.5mm, IPC Medium Density)
footprint TI-PBS32_L (QFP, 32-Leads, Body 5x5mm, Pitch 0.5mm, IPC High Density)
footprint TI-PBS32_M (QFP, 32-Leads, Body 5x5mm, Pitch 0.5mm, IPC Low Density)
pins: 1 DB15 (hiz) "Data Bit 15 (MSB)", 2 DB14 (hiz) "Data Bit 14", 3 DB13 (hiz) "Data Bit 13", 4 DB12 (hiz) "Data Bit 12", 5 DB11 (hiz) "Data Bit 11", 6 DB10 (hiz) "Data Bit 10", 7 DB9 (hiz) "Data Bit 9", 8 DB8 (hiz) "Data Bit 8", 9 DB7 (hiz) "Data Bit 7", 10 DB6 (hiz) "Data Bit 6", 11 DB5 (hiz) "Data Bit 5", 12 DB4 (hiz) "Data Bit 4", 13 DB3 (hiz) "Data Bit 3", 14 DB2 (hiz) "Data Bit 2", 15 DB1 (hiz) "Data Bit 1", 16 DB0 (hiz) "Data Bit 0 (LSB)", 17 BUSY (out) "High when a conversion is in progress.", 18 DVDD+ (power) "Digital Power Supply, +5VDC.", 19 DGND (power) "Digital Ground", 20 CLOCK (in) "An external CMOS-compatible clock can be applied to the CLOCK input to synchronize the conversion process to an external source.", 21 ~{CONVST} (in) "Convert Start", 22 ~{RD} (in) "Synchronization pulse for the parallel output.", 23 BYTE (in) "Selects eight most significant bits (low) or eight least significant bits (high). Data valid on pins 9-16.", 24 ~{CS} (in) "Chip Select", 25 IN- (in) "Inverting Input Channel", 26 IN+ (in) "Noninverting Input Channel", 27 AGND (power) "Analog Ground", 28 AVDD+ (power) "Analog Power Supply, +5VDC.", 29 NC "No connection", 30 NC "No connection", 31 REFIN (in) "Reference Input. When using the internal 2.5V reference, tie this pin directly to REFOUT.", 32 REFOUT (out) "Reference Output. A 0.1uF capacitor should be connected to this pin when the internal reference is used."

## ADS8323Y/2KG4
designator U?
Pseudo Bipolar, 16-Bit, 500 kSPS CMOS ADC, -40 to 85 degC, 32-pin QFP (PBS32), Green (RoHS & no Sb/Br); Manufacturer: Texas Instruments; PartNumber: ADS8323Y/2KG4; # Input Channels: 1; Analog Voltage AV/DD(Max)(V): 5.25; Analog Voltage AV/DD(Min)(V): 4.75; Architecture: SAR; INL(Max)(+/-LSB): 8; Interface: Parallel CMOS; Resolution(Bits): 16; Sample Rate (max)(SPS): 500k; SFDR(dB): 94; SINAD(dB): 81; SubFamily: Precision ADC (<=10MSPS); DatasheetVersion: SBAS224C; PackageVersion: 4087735/B, 07/2005; PackageReference: PBS32; PackageDescription: 32-Pin Plastic Flat Pack, Body 5 X 5 mm, Pitch 0.5 mm; Supplier 1: Digi-Key; Supplier Part Number 1: ADS7841PG4-ND; Supplier 2: Newark; Supplier Part Number 2: 13M6153; Supplier 3: Mouser; Supplier Part Number 3: 595-ADS7841PG4; Digital Supply(Max)(V): 5.25; Digital Supply(Min)(V): 4.75; Eco-Plan: Green (RoHS & no Sb/Br); Mounting Technology: Surface Mount; Code_JEDEC: MS-026; ComponentLink1Description: Manufacturer URL; ComponentLink1URL: http://www.ti.com/; ComponentLink2Description: Datasheet; ComponentLink2URL: http://www.ti.com/general/docs/lit/getliterature.tsp?genericPartNumber=ADS8323&fileType=pdf; ComponentLink3Description: Package Specification; ComponentLink3URL: http://www.ti.com/lit/ml/mpqf027a/mpqf027a.pdf
footprint TI-PBS32_N (QFP, 32-Leads, Body 5x5mm, Pitch 0.5mm, IPC Medium Density)
footprint TI-PBS32_L (QFP, 32-Leads, Body 5x5mm, Pitch 0.5mm, IPC High Density)
footprint TI-PBS32_M (QFP, 32-Leads, Body 5x5mm, Pitch 0.5mm, IPC Low Density)
pins: 1 DB15 (hiz) "Data Bit 15 (MSB)", 2 DB14 (hiz) "Data Bit 14", 3 DB13 (hiz) "Data Bit 13", 4 DB12 (hiz) "Data Bit 12", 5 DB11 (hiz) "Data Bit 11", 6 DB10 (hiz) "Data Bit 10", 7 DB9 (hiz) "Data Bit 9", 8 DB8 (hiz) "Data Bit 8", 9 DB7 (hiz) "Data Bit 7", 10 DB6 (hiz) "Data Bit 6", 11 DB5 (hiz) "Data Bit 5", 12 DB4 (hiz) "Data Bit 4", 13 DB3 (hiz) "Data Bit 3", 14 DB2 (hiz) "Data Bit 2", 15 DB1 (hiz) "Data Bit 1", 16 DB0 (hiz) "Data Bit 0 (LSB)", 17 BUSY (out) "High when a conversion is in progress.", 18 DVDD+ (power) "Digital Power Supply, +5VDC.", 19 DGND (power) "Digital Ground", 20 CLOCK (in) "An external CMOS-compatible clock can be applied to the CLOCK input to synchronize the conversion process to an external source.", 21 ~{CONVST} (in) "Convert Start", 22 ~{RD} (in) "Synchronization pulse for the parallel output.", 23 BYTE (in) "Selects eight most significant bits (low) or eight least significant bits (high). Data valid on pins 9-16.", 24 ~{CS} (in) "Chip Select", 25 IN- (in) "Inverting Input Channel", 26 IN+ (in) "Noninverting Input Channel", 27 AGND (power) "Analog Ground", 28 AVDD+ (power) "Analog Power Supply, +5VDC.", 29 NC "No connection", 30 NC "No connection", 31 REFIN (in) "Reference Input. When using the internal 2.5V reference, tie this pin directly to REFOUT.", 32 REFOUT (out) "Reference Output. A 0.1uF capacitor should be connected to this pin when the internal reference is used."

## ADS8323Y/250
designator U?
Pseudo Bipolar, 16-Bit, 500 kSPS CMOS ADC, -40 to 85 degC, 32-pin QFP (PBS32), Green (RoHS & no Sb/Br); Manufacturer: Texas Instruments; PartNumber: ADS8323Y/250; # Input Channels: 1; Analog Voltage AV/DD(Max)(V): 5.25; Analog Voltage AV/DD(Min)(V): 4.75; Architecture: SAR; INL(Max)(+/-LSB): 8; Interface: Parallel CMOS; Resolution(Bits): 16; Sample Rate (max)(SPS): 500k; SFDR(dB): 94; SINAD(dB): 81; SubFamily: Precision ADC (<=10MSPS); DatasheetVersion: SBAS224C; PackageVersion: 4087735/B, 07/2005; PackageReference: PBS32; PackageDescription: 32-Pin Plastic Flat Pack, Body 5 X 5 mm, Pitch 0.5 mm; Supplier 1: Digi-Key; Supplier Part Number 1: ADS823E-ND; Supplier 2: Mouser; Supplier Part Number 2: 595-ADS823E; Digital Supply(Max)(V): 5.25; Digital Supply(Min)(V): 4.75; Eco-Plan: Green (RoHS & no Sb/Br); Mounting Technology: Surface Mount; Code_JEDEC: MS-026; ComponentLink1Description: Manufacturer URL; ComponentLink1URL: http://www.ti.com/; ComponentLink2Description: Datasheet; ComponentLink2URL: http://www.ti.com/general/docs/lit/getliterature.tsp?genericPartNumber=ADS8323&fileType=pdf; ComponentLink3Description: Package Specification; ComponentLink3URL: http://www.ti.com/lit/ml/mpqf027a/mpqf027a.pdf
footprint TI-PBS32_N (QFP, 32-Leads, Body 5x5mm, Pitch 0.5mm, IPC Medium Density)
footprint TI-PBS32_L (QFP, 32-Leads, Body 5x5mm, Pitch 0.5mm, IPC High Density)
footprint TI-PBS32_M (QFP, 32-Leads, Body 5x5mm, Pitch 0.5mm, IPC Low Density)
pins: 1 DB15 (hiz) "Data Bit 15 (MSB)", 2 DB14 (hiz) "Data Bit 14", 3 DB13 (hiz) "Data Bit 13", 4 DB12 (hiz) "Data Bit 12", 5 DB11 (hiz) "Data Bit 11", 6 DB10 (hiz) "Data Bit 10", 7 DB9 (hiz) "Data Bit 9", 8 DB8 (hiz) "Data Bit 8", 9 DB7 (hiz) "Data Bit 7", 10 DB6 (hiz) "Data Bit 6", 11 DB5 (hiz) "Data Bit 5", 12 DB4 (hiz) "Data Bit 4", 13 DB3 (hiz) "Data Bit 3", 14 DB2 (hiz) "Data Bit 2", 15 DB1 (hiz) "Data Bit 1", 16 DB0 (hiz) "Data Bit 0 (LSB)", 17 BUSY (out) "High when a conversion is in progress.", 18 DVDD+ (power) "Digital Power Supply, +5VDC.", 19 DGND (power) "Digital Ground", 20 CLOCK (in) "An external CMOS-compatible clock can be applied to the CLOCK input to synchronize the conversion process to an external source.", 21 ~{CONVST} (in) "Convert Start", 22 ~{RD} (in) "Synchronization pulse for the parallel output.", 23 BYTE (in) "Selects eight most significant bits (low) or eight least significant bits (high). Data valid on pins 9-16.", 24 ~{CS} (in) "Chip Select", 25 IN- (in) "Inverting Input Channel", 26 IN+ (in) "Noninverting Input Channel", 27 AGND (power) "Analog Ground", 28 AVDD+ (power) "Analog Power Supply, +5VDC.", 29 NC "No connection", 30 NC "No connection", 31 REFIN (in) "Reference Input. When using the internal 2.5V reference, tie this pin directly to REFOUT.", 32 REFOUT (out) "Reference Output. A 0.1uF capacitor should be connected to this pin when the internal reference is used."

## ADS8323Y/250G4
designator U?
Pseudo Bipolar, 16-Bit, 500 kSPS CMOS ADC, -40 to 85 degC, 32-pin QFP (PBS32), Green (RoHS & no Sb/Br); Manufacturer: Texas Instruments; PartNumber: ADS8323Y/250G4; # Input Channels: 1; Analog Voltage AV/DD(Max)(V): 5.25; Analog Voltage AV/DD(Min)(V): 4.75; Architecture: SAR; INL(Max)(+/-LSB): 8; Interface: Parallel CMOS; Resolution(Bits): 16; Sample Rate (max)(SPS): 500k; SFDR(dB): 94; SINAD(dB): 81; SubFamily: Precision ADC (<=10MSPS); DatasheetVersion: SBAS224C; PackageVersion: 4087735/B, 07/2005; PackageReference: PBS32; PackageDescription: 32-Pin Plastic Flat Pack, Body 5 X 5 mm, Pitch 0.5 mm; Supplier 1: Digi-Key; Supplier Part Number 1: ADS823E/1K-ND; Supplier 2: Mouser; Supplier Part Number 2: 595-ADS823E/1K; Digital Supply(Max)(V): 5.25; Digital Supply(Min)(V): 4.75; Eco-Plan: Green (RoHS & no Sb/Br); Mounting Technology: Surface Mount; Code_JEDEC: MS-026; ComponentLink1Description: Manufacturer URL; ComponentLink1URL: http://www.ti.com/; ComponentLink2Description: Datasheet; ComponentLink2URL: http://www.ti.com/general/docs/lit/getliterature.tsp?genericPartNumber=ADS8323&fileType=pdf; ComponentLink3Description: Package Specification; ComponentLink3URL: http://www.ti.com/lit/ml/mpqf027a/mpqf027a.pdf
footprint TI-PBS32_N (QFP, 32-Leads, Body 5x5mm, Pitch 0.5mm, IPC Medium Density)
footprint TI-PBS32_L (QFP, 32-Leads, Body 5x5mm, Pitch 0.5mm, IPC High Density)
footprint TI-PBS32_M (QFP, 32-Leads, Body 5x5mm, Pitch 0.5mm, IPC Low Density)
pins: 1 DB15 (hiz) "Data Bit 15 (MSB)", 2 DB14 (hiz) "Data Bit 14", 3 DB13 (hiz) "Data Bit 13", 4 DB12 (hiz) "Data Bit 12", 5 DB11 (hiz) "Data Bit 11", 6 DB10 (hiz) "Data Bit 10", 7 DB9 (hiz) "Data Bit 9", 8 DB8 (hiz) "Data Bit 8", 9 DB7 (hiz) "Data Bit 7", 10 DB6 (hiz) "Data Bit 6", 11 DB5 (hiz) "Data Bit 5", 12 DB4 (hiz) "Data Bit 4", 13 DB3 (hiz) "Data Bit 3", 14 DB2 (hiz) "Data Bit 2", 15 DB1 (hiz) "Data Bit 1", 16 DB0 (hiz) "Data Bit 0 (LSB)", 17 BUSY (out) "High when a conversion is in progress.", 18 DVDD+ (power) "Digital Power Supply, +5VDC.", 19 DGND (power) "Digital Ground", 20 CLOCK (in) "An external CMOS-compatible clock can be applied to the CLOCK input to synchronize the conversion process to an external source.", 21 ~{CONVST} (in) "Convert Start", 22 ~{RD} (in) "Synchronization pulse for the parallel output.", 23 BYTE (in) "Selects eight most significant bits (low) or eight least significant bits (high). Data valid on pins 9-16.", 24 ~{CS} (in) "Chip Select", 25 IN- (in) "Inverting Input Channel", 26 IN+ (in) "Noninverting Input Channel", 27 AGND (power) "Analog Ground", 28 AVDD+ (power) "Analog Power Supply, +5VDC.", 29 NC "No connection", 30 NC "No connection", 31 REFIN (in) "Reference Input. When using the internal 2.5V reference, tie this pin directly to REFOUT.", 32 REFOUT (out) "Reference Output. A 0.1uF capacitor should be connected to this pin when the internal reference is used."

## ADS8323YB/250
designator U?
Pseudo Bipolar, 16-Bit, 500 kSPS CMOS ADC, -40 to 85 degC, 32-pin QFP (PBS32), Green (RoHS & no Sb/Br); Manufacturer: Texas Instruments; PartNumber: ADS8323YB/250; # Input Channels: 1; Analog Voltage AV/DD(Max)(V): 5.25; Analog Voltage AV/DD(Min)(V): 4.75; Architecture: SAR; INL(Max)(+/-LSB): 6; Interface: Parallel CMOS; Resolution(Bits): 16; Sample Rate (max)(SPS): 500k; SFDR(dB): 96; SINAD(dB): 83; SubFamily: Precision ADC (<=10MSPS); DatasheetVersion: SBAS224C; PackageVersion: 4087735/B, 07/2005; PackageReference: PBS32; PackageDescription: 32-Pin Plastic Flat Pack, Body 5 X 5 mm, Pitch 0.5 mm; Supplier 1: Digi-Key; Supplier Part Number 1: ADS823E/1KG4-ND; Supplier 2: Mouser; Supplier Part Number 2: 595-ADS823E/1KG4; Digital Supply(Max)(V): 5.25; Digital Supply(Min)(V): 4.75; Eco-Plan: Green (RoHS & no Sb/Br); Mounting Technology: Surface Mount; Code_JEDEC: MS-026; ComponentLink1Description: Manufacturer URL; ComponentLink1URL: http://www.ti.com/; ComponentLink2Description: Datasheet; ComponentLink2URL: http://www.ti.com/general/docs/lit/getliterature.tsp?genericPartNumber=ADS8323&fileType=pdf; ComponentLink3Description: Package Specification; ComponentLink3URL: http://www.ti.com/lit/ml/mpqf027a/mpqf027a.pdf
footprint TI-PBS32_N (QFP, 32-Leads, Body 5x5mm, Pitch 0.5mm, IPC Medium Density)
footprint TI-PBS32_L (QFP, 32-Leads, Body 5x5mm, Pitch 0.5mm, IPC High Density)
footprint TI-PBS32_M (QFP, 32-Leads, Body 5x5mm, Pitch 0.5mm, IPC Low Density)
pins: 1 DB15 (hiz) "Data Bit 15 (MSB)", 2 DB14 (hiz) "Data Bit 14", 3 DB13 (hiz) "Data Bit 13", 4 DB12 (hiz) "Data Bit 12", 5 DB11 (hiz) "Data Bit 11", 6 DB10 (hiz) "Data Bit 10", 7 DB9 (hiz) "Data Bit 9", 8 DB8 (hiz) "Data Bit 8", 9 DB7 (hiz) "Data Bit 7", 10 DB6 (hiz) "Data Bit 6", 11 DB5 (hiz) "Data Bit 5", 12 DB4 (hiz) "Data Bit 4", 13 DB3 (hiz) "Data Bit 3", 14 DB2 (hiz) "Data Bit 2", 15 DB1 (hiz) "Data Bit 1", 16 DB0 (hiz) "Data Bit 0 (LSB)", 17 BUSY (out) "High when a conversion is in progress.", 18 DVDD+ (power) "Digital Power Supply, +5VDC.", 19 DGND (power) "Digital Ground", 20 CLOCK (in) "An external CMOS-compatible clock can be applied to the CLOCK input to synchronize the conversion process to an external source.", 21 ~{CONVST} (in) "Convert Start", 22 ~{RD} (in) "Synchronization pulse for the parallel output.", 23 BYTE (in) "Selects eight most significant bits (low) or eight least significant bits (high). Data valid on pins 9-16.", 24 ~{CS} (in) "Chip Select", 25 IN- (in) "Inverting Input Channel", 26 IN+ (in) "Noninverting Input Channel", 27 AGND (power) "Analog Ground", 28 AVDD+ (power) "Analog Power Supply, +5VDC.", 29 NC "No connection", 30 NC "No connection", 31 REFIN (in) "Reference Input. When using the internal 2.5V reference, tie this pin directly to REFOUT.", 32 REFOUT (out) "Reference Output. A 0.1uF capacitor should be connected to this pin when the internal reference is used."